# Altium schematic symbol library Resistors_EFR.SchLib: 8 symbols
Pins are listed as number, name and electrical type; pins without a type are passive.

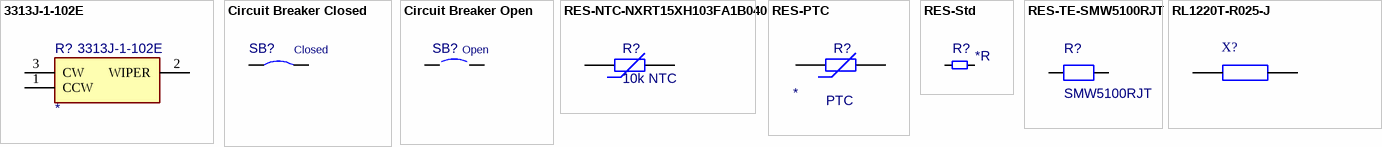
[diagram p0: symbols 3313J-1-102E to RL1220T-R025-J]

## 3313J-1-102E
designator R?
3313J-1-102E: Bourns 3313J Series SMD Cermet Trimmer Resistor with J-Hook Terminations. 20%, 500VDC Insulation Resistance; Datasheet Link: https://componentsearchengine.com/Datasheets/1/3313J-1-102E.pdf; Height: 2.4mm; Manufacturer_Name: Bourns; Part_Number: 3313J-1-102E; Value: *
footprint 3313J1102E
pins: 1 CCW, 2 WIPER, 3 CW

## Circuit Breaker Closed
designator SB?, comment Closed
Circuit Breaker Closed; Revision: July-2002: Re-released for DXP Platform.; Mounting Technology: SMT
footprint SB-0603(1608)-Closed (Solder Bridge 0603 (1608) in closed state)
footprint SB-0805(2012)-Closed (Solder Bridge 0805 (2012) in closed state)
pins: 1, 2

## Circuit Breaker Open
designator SB?, comment Open
Circuit Breaker Open; Revision: July-2002: Re-released for DXP Platform.; Mounting Technology: SMT
footprint SB-0603(1608)-Open (Solder Bridge 0603 (1608) in open state)
footprint SB-0805(2012)-Open (Solder Bridge 0805 (2012) in open state)
pins: 1, 2

## RES-NTC-NXRT15XH103FA1B040
designator R?, comment 10k NTC
NTC Thermistor for Temperature Sensor/Lead Type 10k Bead; Manufacturer: Murata; PartNumber: NXRT15XH103FA1B040; Resistance: 10kR; Power Rating: 7.5mW; Tolerance: 1%; Lead Diameter: 0.4mm; RoHS: Yes; Category: Thermistors; Stock 1: 990; Pricing 1: 1=0,47880, 5=0,45380, 10=0,39380, 25=0,34390, 50=0,28440, 100=0,24080, 500=0,20770, 1000=0,18030, 5000=0,15830 (USD); Mount: THT; Case/Package: 0402; Number of Pins: 2; Min Operating Temperature: -40°C; Max Operating Temperature: 125°C; Packaging: Bulk; Package Quantity: 500; Termination: Radial; Series: NXR; Resistance Tolerance: 1%; Max Power Dissipation: 7.5mW; Length: 5mm; Width: 4mm; Height: 2mm; Depth: 2mm; Lead Pitch: 2.5mm; Lead Free: Lead Free; RoHS Compliant: Yes; ComponentLink5Description: Manufacturer; ComponentLink5URL: https://www.murata.com/products/productdetail?partno=NXRT15XH103FA1B040; ComponentLink6Description: Datasheet; ComponentLink6URL: https://www.murata.com/en-eu/api/pdfdownloadapi?cate=luNTCforTempeSenso&partno=NXRT15XH103FA1B040; ComponentLink7Description: Datasheet2; ComponentLink7URL: https://www.murata.com/en-us/products/productdata/8796838297630/S0423E.pdf; ComponentLink8Description: Mouser; ComponentLink8URL: http://www.mouser.com/ds/2/281/r44e-3685.pdf; ComponentLink9Description: Arrow; ComponentLink9URL: https://www.murata.com/products/productdetail?partno=NXRT15XH103FA1B040; Supplier 1: Mouser; Supplier 2: Arrow Electronics; Supplier 3: Digi-Key; Supplier Part Number 3: 490-7167-ND; Supplier Part Number 2: NXRT15XH103FA1B040; Supplier Part Number 1: 81-NXRT15XH103FA1B40
footprint NXR_151B040-Murata
pins: 1, 2

## RES-PTC
designator R?, comment PTC
Manufacturer: *; Voltage (V): *; Value: *; Current (A): *; Power (W): *; Tolerance: *; Type: PTC; Capacitance: *; Resistance: *; PartNumber: *
footprint J109
footprint TDK_EPCOS_B59219J_MFG (PTC thermistors as inrush current limiters)
footprint 0603(1608)_M (Chip Resistor, 2-Leads, Body 1.60x0.85mm, IPC Low Density)
footprint PTC
pins: 1, 2

## RES-Std
designator R?, comment Resistance: *R  (hidden comment: Resistor)
General resistor; Value: *R; Tolerance: *%; Power (W): *; Manufacturer P/N: *; Current (A): *; Type: *; Voltage (V): *; Manufacturer: *; Capacitance: *
footprint 0603_L
footprint 0603_N
footprint 0603_M
footprint 0805_L
footprint 0805_N
footprint 0805_M
footprint 1206_L
footprint 1206_N
footprint 1206_M
footprint 2512(6432)_L (Chip Resistor, Body 6.4x3.2mm, IPC High Density)
footprint 2512(6432)_N (Chip Resistor, Body 6.4x3.2mm, IPC Medium Density)
footprint 2512(6432)_M (Chip Resistor, Body 6.4x3.2mm, IPC Low Density)
footprint TO-247_Vishay_LTO100
footprint 1206(3216)_L (Chip Resistor, Body 3.2x1.6mm, IPC High Density)
footprint 1206(3216)_N (Chip Resistor, Body 3.2x1.6mm, IPC Medium Density)
footprint 1206(3216)_M (Chip Resistor, Body 3.2x1.6mm, IPC Low Density)
footprint 0805(2012)_L (Chip Resistor, 2-Leads, Body 2.00x1.25mm, IPC High Density)
footprint 0805(2012)_N (Chip Resistor, 2-Leads, Body 2.00x1.25mm, IPC Medium Density)
footprint 0805(2012)_M (Chip Resistor, 2-Leads, Body 2.00x1.25mm, IPC Low Density)
footprint 0603(1608)_L (Chip Resistor, 2-Leads, Body 1.60x0.85mm, IPC High Density)
footprint 0603(1608)_N (Chip Resistor, 2-Leads, Body 1.60x0.85mm, IPC Medium Density)
footprint 0603(1608)_M (Chip Resistor, 2-Leads, Body 1.60x0.85mm, IPC Low Density)
footprint 2010 (5025)
footprint CPW10x3 (Footprint für Body-Protection Widerstände)
pins: 1, 2

## RES-TE-SMW5100RJT
designator R?, comment SMW5100RJT
CGS SM, Surface Mount Resistors, Power Resistor, 2 Terminations, Taped & Reeled, 5%, Wirewound, Resistance Range Up to 1kΩ Ω, 100 Resistance; Manufacturer: TE Connectivity; Vallue: 100R; PartNumber: SMW5100RJT; Copyright: Copyright (C) 2018 Accelerated Designs. All rights reserved
footprint RES-TE-SM_5
pins: 1, 2

## RL1220T-R025-J
designator X?
RESISTOR, 0805 0.025 Ohm +/- 5% 0.25 W; Manufacturer_Name: Susumu; Manufacturer_Part_Number: RL1220T-R025-J; Mouser Part Number: 754-RL1220T-R025-J; Mouser Price/Stock: https://www.mouser.co.uk/ProductDetail/Susumu/RL1220T-R025-J?qs=CJ5eSktU8iwufQ243x%2FzIQ%3D%3D; Arrow Part Number: *; Arrow Price/Stock: *; Mouser Testing Part Number: *; Mouser Testing Price/Stock: *; Datasheet Link: *
footprint 0805(2012)_N (Chip Resistor, 2-Leads, Body 2.00x1.25mm, IPC Medium Density)
pins: 1 R1, 2 R2